# Altium footprint library 555timer.PcbLib: 5 footprints
Each footprint in its own frame and in the unit in brackets; x right, y up, seen from the top. Pads: shape width x height; smd on the part's side, far side on the other; paste and mask are expansions set on the pad; w line width, h text height; cw(c..) or ccw(c..) is an arc to the next point about the centre after c.
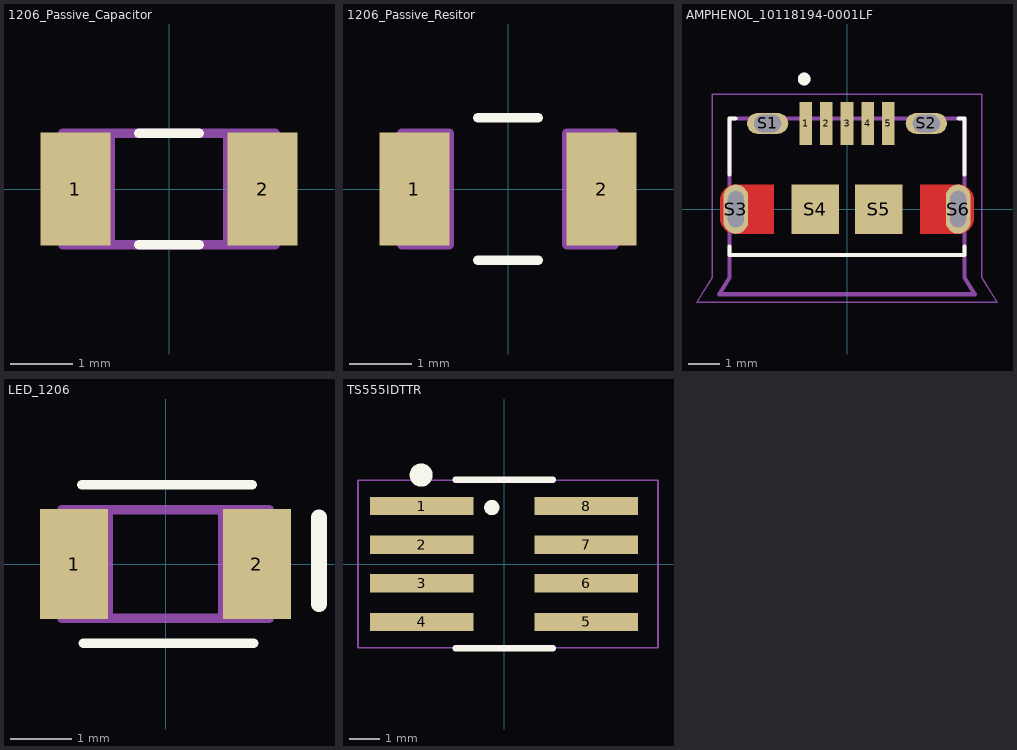
[diagram p0: the footprints below, top view; thin cyan lines are the x and y axes]

## 1206_Passive_Capacitor [mil]
pads (2):
  rect 44x71 smd: 1(-59,0) 2(59,0)
Top Overlay:
  lines w6: -19,-35 19,-35 ; -19,35 19,35
Mechanical 4:
  lines w6: -67,-35 -37,-35 ; -67,-35 -67,35 ; -67,-35 -37,-35 ; -67,-35 -67,35 ; -67,35 -37,35 ; -67,35 -37,35 ; -37,-35 -37,35 ; -37,-35 37,-35 ; -37,-35 -37,35 ; -37,-35 37,-35 ; -37,35 37,35 ; -37,35 37,35 ; 37,-35 37,35 ; 37,-35 67,-35 ; 37,-35 37,35 ; 37,-35 67,-35 ; 37,35 67,35 ; 37,35 67,35 ; 67,-35 67,35 ; 67,-35 67,35
3D body "Capacitor_1206.STEP": height 49.61, standoff 0.39, extent -62.99,-31.49 63,31.5

## 1206_Passive_Resitor [mil]
pads (2):
  rect 44x71 smd: 1(-59,0) 2(59,0)
Top Overlay:
  lines w6: -19,-44.88 19,-44.88 ; -19,44.88 19,44.88
Mechanical 4:
  lines w6: -67,-35 -37,-35 ; -67,-35 -67,35 ; -67,-35 -37,-35 ; -67,-35 -67,35 ; -67,35 -37,35 ; -67,35 -37,35 ; -37,-35 -37,35 ; -37,-35 -37,35 ; 37,-35 37,35 ; 37,-35 67,-35 ; 37,-35 37,35 ; 37,-35 67,-35 ; 37,35 67,35 ; 37,35 67,35 ; 67,-35 67,35 ; 67,-35 67,35
3D body "Res_1206.STEP": height 25.59, standoff 0, extent -61.02,-30.51 61.03,30.52

## AMPHENOL_10118194-0001LF [mm]
pads (11):
  rect 0.4x1.35 smd: 1(-1.3,2.7) 2(-0.65,2.7) 3(0,2.7) 4(0.65,2.7) 5(1.3,2.7)
  oval 1.3x0.65 hole 0.55 slot 0.85 at 0 deg: S1(-2.5,2.7) S2(2.5,2.7)
  oval 0.775x1.55 hole 0.5 slot 1.15 at 90 deg: S3(-3.5,0) S6(3.5,0)
  rect 1.5x1.55 smd: S4(-1,0) S5(1,0)
Top Layer:
  region: 191 vertices and 0 holes, not listed, extent -4,-0.775 -2.3,0.78
  region: 191 vertices and 0 holes, not listed, extent 2.3,-0.78 4,0.775
Top Overlay:
  circle w0.2: c-1.35,4.1 r0.1
  lines w0.127: -3.7,-1.18 -3.7,-1.45 3.7,-1.45 3.7,-1.18 ; -3.7,1.095 -3.7,2.85 -3.52,2.85 ; 3.52,2.85 3.7,2.85 3.7,1.095
Top Paste:
  drawing of 6 lines, arcs and shapes, not listed
Top Solder:
  region: -2.2,-0.875 -3.6,-0.875 -3.626,-0.874 -3.652,-0.872 -3.678,-0.869 -3.704,-0.864 -3.729,-0.858 -3.755,-0.851 -3.779,-0.842 -3.803,-0.832 -3.827,-0.821 -3.85,-0.808 -3.872,-0.794 -3.894,-0.78 -3.915,-0.764 -3.935,-0.747 -3.954,-0.729 -3.972,-0.71 -3.989,-0.69 -4.005,-0.669 -4.019,-0.647 -4.033,-0.625 -4.046,-0.602 -4.057,-0.578 -4.067,-0.554 -4.076,-0.53 -4.083,-0.504 -4.089,-0.479 -4.094,-0.453 -4.097,-0.427 -4.099,-0.401 -4.1,-0.375 -4.1,0.375 -4.099,0.401 -4.097,0.427 -4.094,0.453 -4.089,0.479 -4.083,0.504 -4.076,0.53 -4.067,0.554 -4.057,0.578 -4.046,0.602 -4.033,0.625 -4.019,0.647 -4.005,0.669 -3.989,0.69 -3.972,0.71 -3.954,0.729 -3.935,0.747 -3.915,0.764 -3.894,0.78 -3.872,0.794 -3.85,0.808 -3.827,0.821 -3.803,0.832 -3.779,0.842 -3.755,0.851 -3.729,0.858 -3.704,0.864 -3.678,0.869 -3.652,0.872 -3.626,0.874 -3.6,0.875 -2.2,0.875
  region: 3.626,0.874 3.652,0.872 3.678,0.869 3.704,0.864 3.729,0.858 3.755,0.851 3.779,0.842 3.803,0.832 3.827,0.821 3.85,0.808 3.872,0.794 3.894,0.78 3.915,0.764 3.935,0.747 3.954,0.729 3.972,0.71 3.989,0.69 4.005,0.669 4.019,0.647 4.033,0.625 4.046,0.602 4.057,0.578 4.067,0.554 4.076,0.53 4.083,0.504 4.089,0.479 4.094,0.453 4.097,0.427 4.099,0.401 4.1,0.375 4.1,-0.375 4.099,-0.401 4.097,-0.427 4.094,-0.453 4.089,-0.479 4.083,-0.504 4.076,-0.53 4.067,-0.554 4.057,-0.578 4.046,-0.602 4.033,-0.625 4.019,-0.647 4.005,-0.669 3.989,-0.69 3.972,-0.71 3.954,-0.729 3.935,-0.747 3.915,-0.764 3.894,-0.78 3.872,-0.794 3.85,-0.808 3.827,-0.821 3.803,-0.832 3.779,-0.842 3.755,-0.851 3.729,-0.858 3.704,-0.864 3.678,-0.869 3.652,-0.872 3.626,-0.874 3.6,-0.875 2.2,-0.875 2.2,0.875 3.6,0.875
Mechanical 13:
  circle w0.2: c-1.35,4.1 r0.1
  lines w0.127: -3.7,-1.45 3.7,-1.45 ; -3.7,-1.45 -3.7,2.85 3.7,2.85 3.7,-1.45 ; -3.7,-1.45 -3.7,-2.15 -4.025,-2.68 4.025,-2.68 3.7,-2.15 3.7,-1.45
  text "PCB END" at -1.95,-2.1 h0.5
Mechanical 15:
  lines w0.05: -4.725,-2.93 4.725,-2.93 4.25,-2.15 4.25,3.625 -4.25,3.625 -4.25,-2.15 -4.725,-2.93
3D body "10118194-0001LF--3DModel-STEP-533217.STEP": height 2.74, standoff -0.53, extent -4.025,-2.667 4.025,2.913

## LED_1206 [mil]
pads (2):
  rect 44x71 smd: 1(-59,0) 2(59,0)
Top Overlay:
  lines w6: -54,51.18 56,51.18 ; -53,-51.18 57,-51.18
  lines w10: 99,-26 99,30
Mechanical 4:
  lines w6: -67,-35 -37,-35 ; -67,-35 -67,35 ; -67,-35 -37,-35 ; -67,-35 -67,35 ; -67,35 -37,35 ; -67,35 -37,35 ; -37,-35 -37,35 ; -37,-35 37,-35 ; -37,-35 -37,35 ; -37,-35 37,-35 ; -37,35 37,35 ; -37,35 37,35 ; 37,-35 37,35 ; 37,-35 67,-35 ; 37,-35 37,35 ; 37,-35 67,-35 ; 37,35 67,35 ; 37,35 67,35 ; 67,-35 67,35 ; 67,-35 67,35
3D body "598-8220-107F.STEP": height 27.56, standoff 0, extent -62.99,-31.5 62.99,31.5

## TS555IDTTR [mm]
pads (8):
  rect 3.4x0.6 smd: 1(-2.7,1.905) 2(-2.7,0.635) 3(-2.7,-0.635) 4(-2.7,-1.905) 5(2.7,-1.905) 6(2.7,-0.635) 7(2.7,0.635) 8(2.7,1.905)
Top Overlay:
  circle w0.3: c-0.406,1.854 r0.1
  circle w0.508: c-2.725,2.921 r0.125
  lines w0.2: -1.6,-2.769 1.6,-2.769 ; -1.6,2.769 1.6,2.769
Mechanical 15:
  lines w0.05: -4.801,-2.75 5.055,-2.75 5.055,2.75 -4.801,2.75 -4.801,-2.75
3D body "NE555D.STEP": height 1.75, standoff 0, extent -3.03,-2.476 2.965,2.426